# Altium footprint library Alpha Omega.PcbLib: 1 footprints
Each footprint in its own frame and in the unit in brackets; x right, y up, seen from the top. Pads: shape width x height; smd on the part's side, far side on the other; paste and mask are expansions set on the pad; w line width, h text height; cw(c..) or ccw(c..) is an arc to the next point about the centre after c.
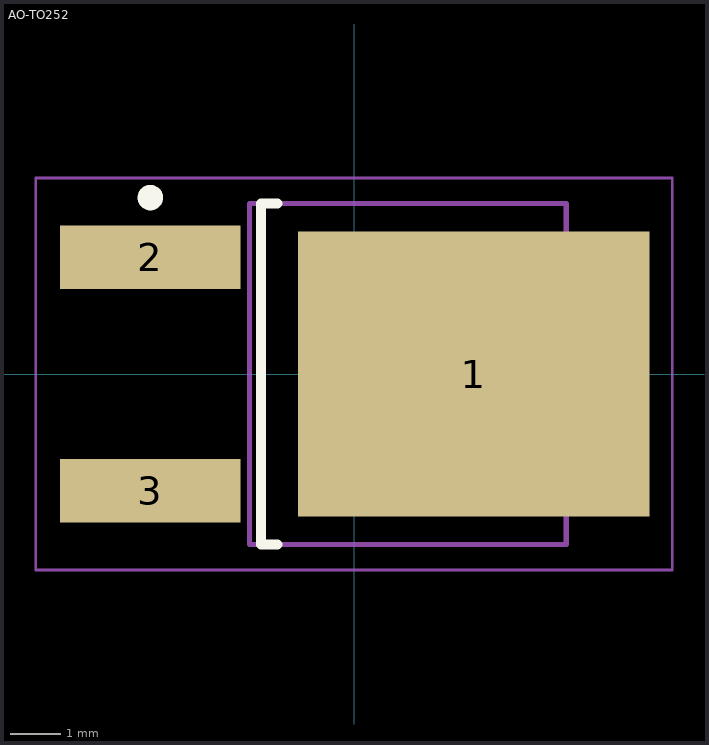
[diagram p0: the footprint, top view; thin cyan lines are the x and y axes]

## AO-TO252 [mm]
pads (3):
  rect 6.9x5.6 smd: 1(2.35,0)
  rect 3.55x1.25 smd: 2(-4,2.29) 3(-4,-2.29)
Top Overlay:
  circle w0.25: c-4,3.465 r0.125
  lines w0.2: -1.5,-3.35 -1.825,-3.35 -1.825,3.35 -1.5,3.35
Mechanical 13:
  lines w0.1: -2.05,-3.35 -2.05,3.35 4.17,3.35 4.17,-3.35 -2.05,-3.35
Mechanical 15:
  lines w0.05: -6.25,-3.85 -6.25,3.85 6.25,3.85 6.25,-3.85 -6.25,-3.85
  lines w0.1: -0.5,0 0.5,0 ; 0,-0.5 0,0.5
3D body: height 2.39, standoff 0, extent -2.05,-3.35 4.17,3.35